# Altium schematic symbol library LESD5D5.0CT1G.SchLib: 1 symbol
Pins are listed as number, name and electrical type; pins without a type are passive.

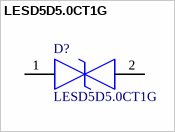
[diagram p0: symbol LESD5D5.0CT1G]

## LESD5D5.0CT1G
designator D?
Bi-Directional 5V 18.6V 5.6V SOD-523 ESD Protection Devices ROHS; Manufacturer: LRC; Mfr.Part #: LESD5D5.0CT1G; Packaging: Tape & Reel (TR); Datasheet: https://datasheet.lcsc.com/lcsc/1912111437_LRC-LESD5D5-0CT1G_C383211.pdf; Package: SOD-523; LCSC Part#: C383211
footprint LESD5D5.0CT1G
pins: 1, 2